# Altium footprint library SKRWAEE030.PcbLib: 1 footprints
Each footprint in its own frame and in the unit in brackets; x right, y up, seen from the top. Pads: shape width x height; smd on the part's side, far side on the other; paste and mask are expansions set on the pad; w line width, h text height; cw(c..) or ccw(c..) is an arc to the next point about the centre after c.
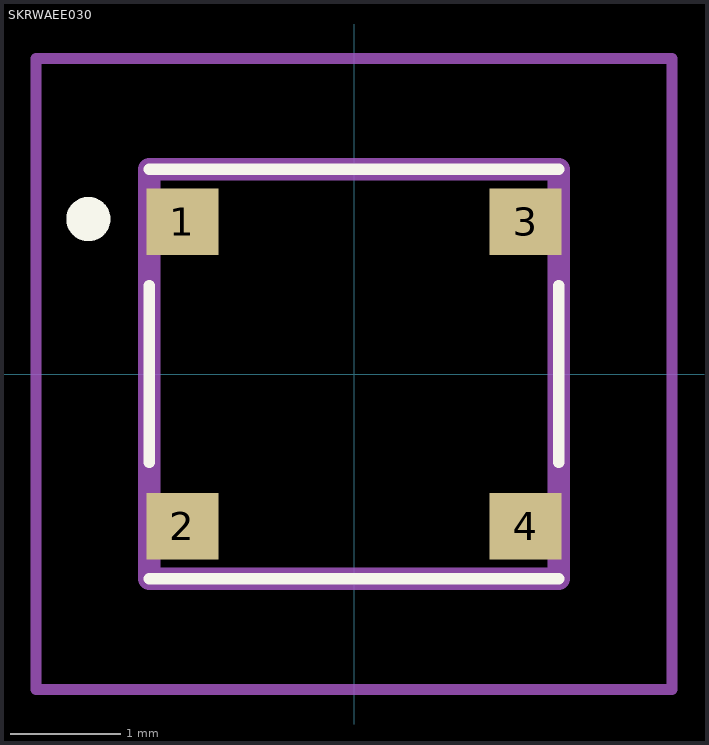
[diagram p0: the footprint, top view; thin cyan lines are the x and y axes]

## SKRWAEE030 [mm]
pads (4):
  rect 0.65x0.6 smd: 1(-1.55,1.375) 2(-1.55,-1.375) 3(1.55,1.375) 4(1.55,-1.375)
Top Overlay:
  lines w0.1: -1.85,-1.85 1.85,-1.85 ; -1.85,-0.8 -1.85,0.8 ; -1.85,1.85 1.85,1.85 ; 1.85,-0.8 1.85,0.8
  lines w0.2: -2.4,1.3 cw(c-2.4,1.4) -2.4,1.5 ; -2.4,1.3 -2.4,1.3 ; -2.4,1.3 ccw(c-2.4,1.4) -2.4,1.5 ; -2.4,1.5 -2.4,1.5
Mechanical 15:
  lines w0.2: -1.85,-1.85 1.85,-1.85 1.85,1.85 -1.85,1.85 -1.85,-1.85
Mechanical 20:
  lines w0.1: -2.875,-2.85 2.875,-2.85 2.875,2.85 -2.875,2.85 -2.875,-2.85